# EAGLE library part PIC24FJ__GB002 (library icnh3)
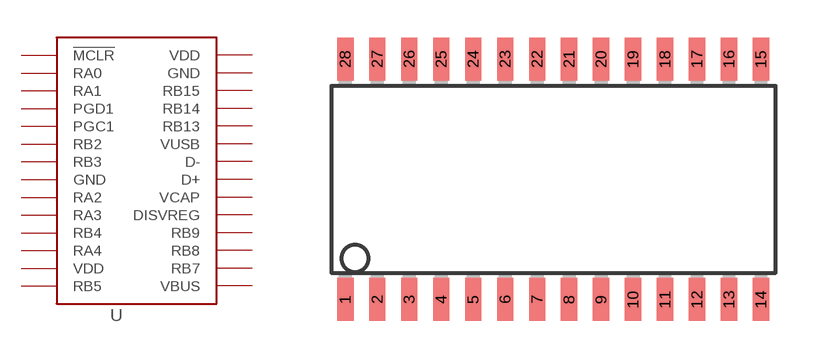
[diagram p16: symbol with the pads of SO28W; footprint SO28W]

Designator prefix U

## PIC24FJ__GB002  [SO28W]
1  !MCLR!
2  RA0
3  RA1
4  PGD1
5  PGC1
6  RB2
7  RB3
8  GND
9  RA2
10  RA3
11  RB4
12  RA4
13  VDD
14  RB5
15  VBUS
16  RB7
17  RB8
18  RB9
19  DISVREG
20  VCAP
21  D+
22  D-
23  VUSB
24  RB13
25  RB14
26  RB15
27  GND
28  VDD

## Footprint SO28W (pad centres in mm)
28-Lead Plastic Small Outline (SO) Wide, 300 mil Body (SOIC) Source: http://ww1.microchip.com/downloads/en/devicedoc/39632c.pdf
smd 0.65 x 1.7: 1 -7.62,-4.78; 2 -6.35,-4.78; 3 -5.08,-4.78; 4 -3.81,-4.78; 5 -2.54,-4.78; 6 -1.27,-4.78; 7 0,-4.78; 8 1.27,-4.78; 9 2.54,-4.78; 10 3.81,-4.78; 11 5.08,-4.78; 12 6.35,-4.78; 13 7.62,-4.78; 14 8.89,-4.78; 15 8.89,4.78; 16 7.62,4.78; 17 6.35,4.78; 18 5.08,4.78; 19 3.81,4.78; 20 2.54,4.78; 21 1.27,4.78; 22 0,4.78; 23 -1.27,4.78; 24 -2.54,4.78; 25 -3.81,4.78; 26 -5.08,4.78; 27 -6.35,4.78; 28 -7.62,4.78